# EAGLE library part AAT3693 (library Skyworks)
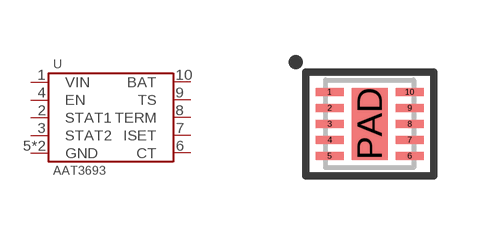
[diagram p2: symbol with the pads of WFDFN-10-2.2MM; footprint WFDFN-10-2.2MM]

Designator prefix U

## AAT3693IDH-AA-T1  [WFDFN-10-2.2MM]
1  VIN
2  STAT1
3  STAT2
4  EN
5  GND
6  CT
7  ISET
8  TERM
9  TS
10  BAT
PAD  GND

## Footprint WFDFN-10-2.2MM (pad centres in mm)
smd 0.7 x 0.2: 1 -1,0.8; 2 -1,0.4; 3 -1,0; 4 -1,-0.4; 5 -1,-0.8; 6 1,-0.8; 7 1,-0.4; 8 1,0; 9 1,0.4; 10 1,0.8
smd 0.9 x 1.8: PAD 0,0